# Altium footprint library SCA600.PcbLib: 1 footprints
Each footprint in its own frame and in the unit in brackets; x right, y up, seen from the top. Pads: shape width x height; smd on the part's side, far side on the other; paste and mask are expansions set on the pad; w line width, h text height; cw(c..) or ccw(c..) is an arc to the next point about the centre after c.
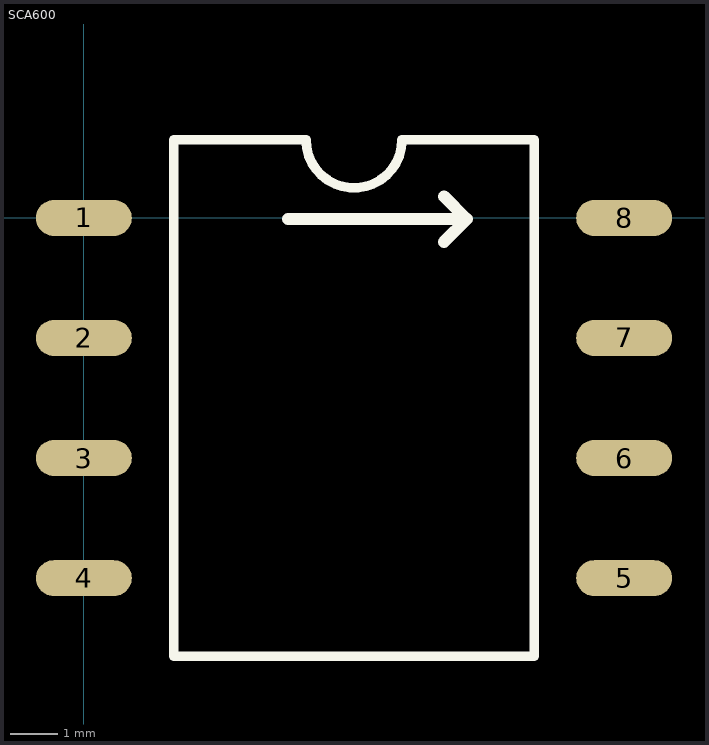
[diagram p0: the footprint, top view; thin cyan lines are the x and y axes]

## SCA600 [mil]
height 215
pads (8):
  oval 80x30 smd: 1(0,0) 2(0,-100) 3(0,-200) 4(0,-300) 5(450,-300) 6(450,-200) 7(450,-100) 8(450,0)
TopOverlay:
  lines w8: 75,-365 75,65 185,65 ccw(c225,65) 265,65 375,65 375,-365 75,-365
  lines w10: 170,-1 319,-1 ; 300,-20 319,-1 ; 300,18 319,-1
  text "." at 100,40 h75
3D body: height 212.6, standoff 0.6, extent -0.29,-359.57 450.21,60.43